# Altium footprint library RJ45_90_LED2.PcbLib: 1 footprints
Each footprint in its own frame and in the unit in brackets; x right, y up, seen from the top. Pads: shape width x height; smd on the part's side, far side on the other; paste and mask are expansions set on the pad; w line width, h text height; cw(c..) or ccw(c..) is an arc to the next point about the centre after c.
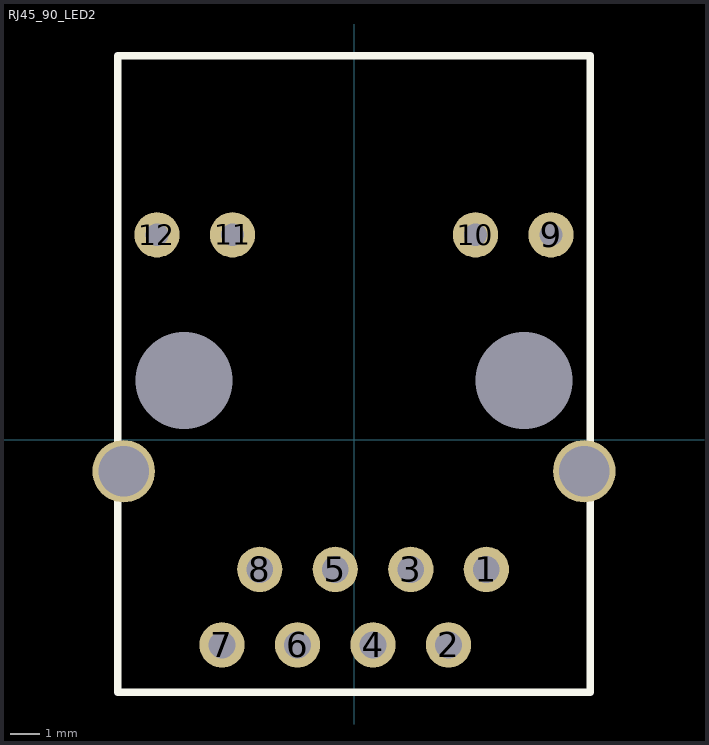
[diagram p0: the footprint, top view; thin cyan lines are the x and y axes]

## RJ45_90_LED2 [mm] "RJ45_90_LED2"
pads (16):
  round 1.524 hole 0.9: 1(4.45,-4.355) 2(3.18,-6.895) 3(1.91,-4.355) 4(0.64,-6.895) 5(-0.63,-4.355) 6(-1.9,-6.895) 7(-4.44,-6.895) 8(-3.17,-4.355)
  round 1.524 hole 0.762: 9(6.625,6.895) 10(4.085,6.895) 11(-4.085,6.895) 12(-6.625,6.895)
  round 2.1 hole 1.7: ""(-7.745,-1.055) ""(7.745,-1.055)
  round 3 hole 3.25: ""(-5.715,1.995) ""(5.715,1.995)
Top Overlay:
  lines w0.254: -7.94,-8.485 -7.94,12.915 7.94,12.915 7.94,-8.485 -7.94,-8.485
3D body: height 13.5, standoff 0, extent -7.95,-8.485 7.95,12.915